# Altium footprint library FOC_DRV8323.PcbLib: 17 footprints (part 1 of 2)
Each footprint in its own frame and in the unit in brackets; x right, y up, seen from the top. Pads: shape width x height; smd on the part's side, far side on the other; paste and mask are expansions set on the pad; w line width, h text height; cw(c..) or ccw(c..) is an arc to the next point about the centre after c.
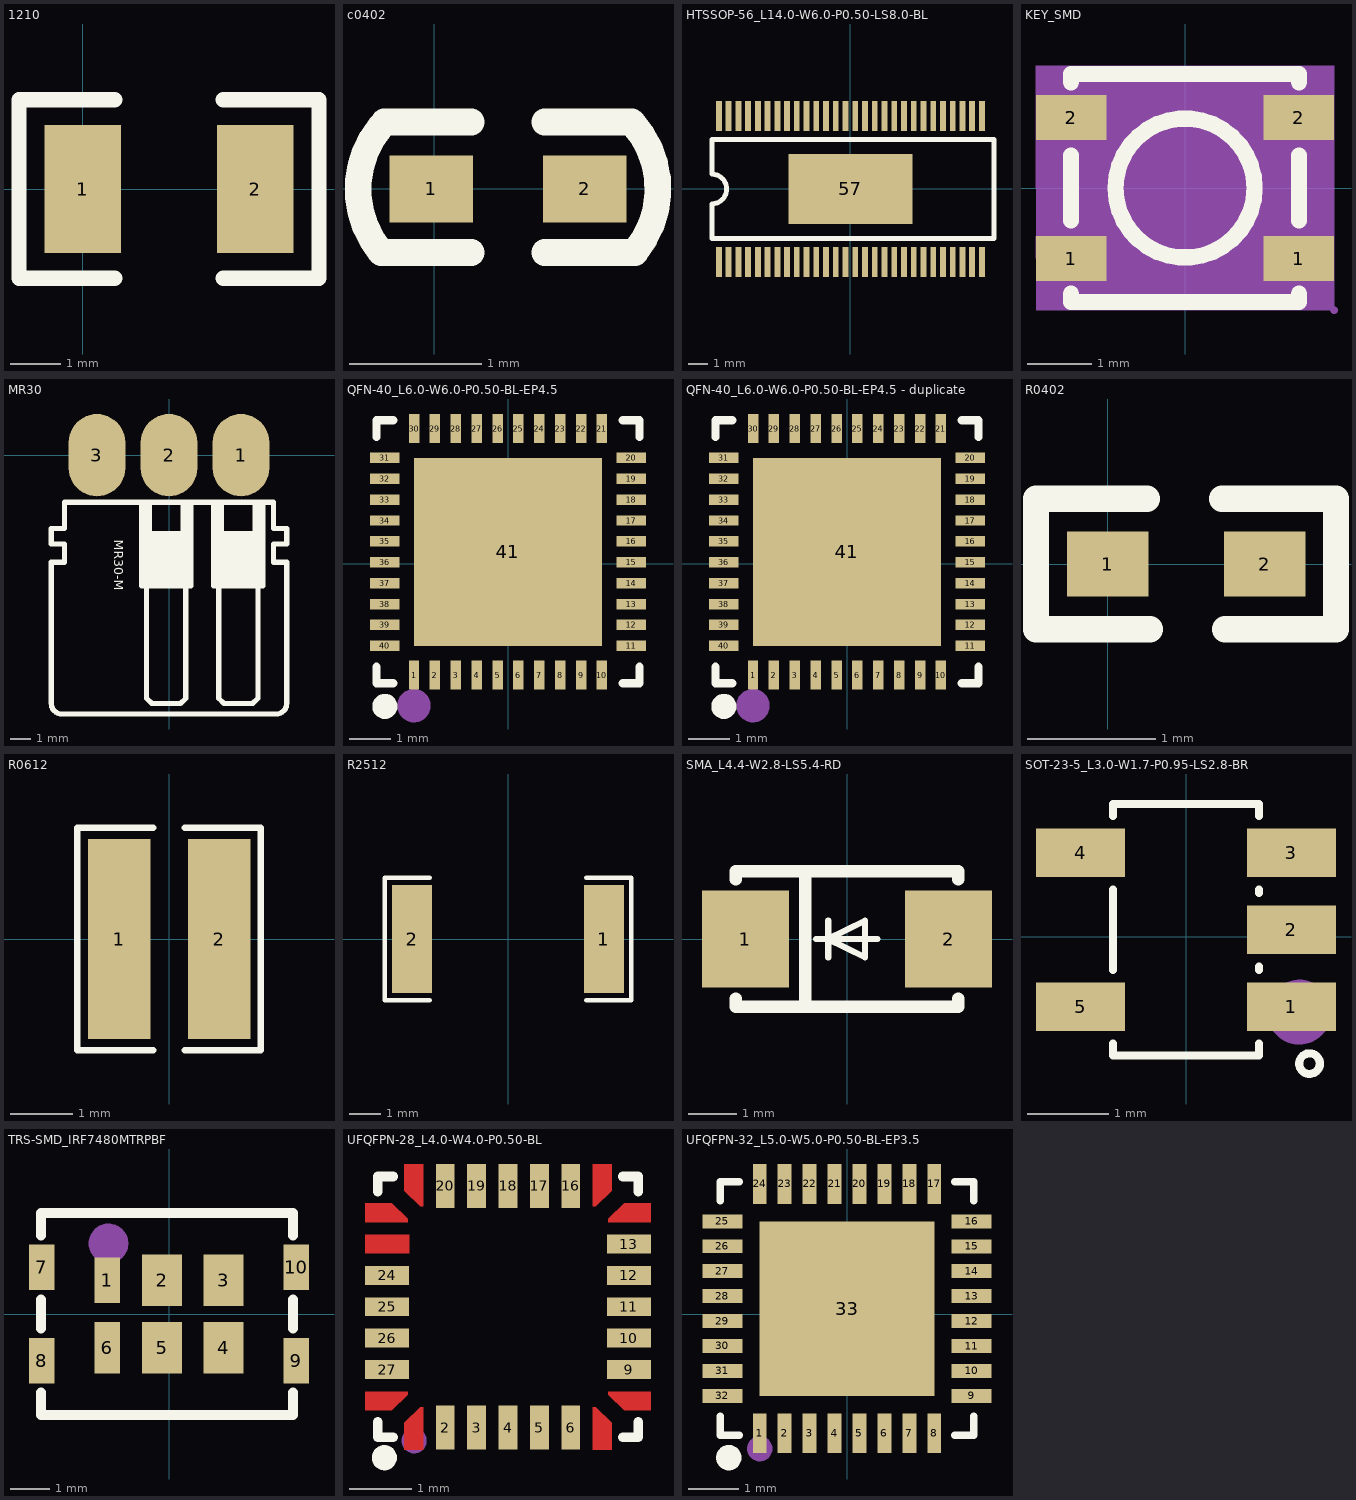
[diagram p0: the footprints below, top view; thin cyan lines are the x and y axes]

## 1210 [mil]
pads (2):
  rect 60x100 smd: 1(0,0) 2(135,0)
Top Overlay:
  lines w12: 25,-70 -50,-70 -50,70 25,70 ; 110,-70 185,-70 185,70 110,70
3D body "User Library-SMD CAPACITOR.sldprt": height 30.35, standoff -0.35, extent 4.01,-49.21 129.99,49.21

## c0402 [mil]
pads (2):
  rect 25x20 smd: 1(-1,0) 2(45,0)
Top Overlay:
  lines w8: -15.94,-19 11,-19 ; -15.94,-18.95 cw(c6.42,-0.05) -15.95,18.84 ; -15,20 11,20 ; 33,-19 59.95,-19 ; 33,20 59,20 cw(c37.58,0.05) 59.95,-18.84
3D body "cap_0402.STEP": height 19.68, standoff 0, extent 2.31,-10 41.68,9.69

## HTSSOP-56_L14.0-W6.0-P0.50-LS8.0-BL [mm]
pads (57):
  rect 0.3x1.55 smd paste+0 mask+0.102: 1(-6.75,-3.75) 2(-6.25,-3.75) 3(-5.75,-3.75) 4(-5.25,-3.75) 5(-4.75,-3.75) 6(-4.25,-3.75) 7(-3.75,-3.75) 8(-3.25,-3.75) 9(-2.75,-3.75) 10(-2.25,-3.75) 11(-1.75,-3.75) 12(-1.25,-3.75) 13(-0.75,-3.75) 14(-0.25,-3.75) 15(0.25,-3.75) 16(0.75,-3.75) 17(1.25,-3.75) 18(1.75,-3.75) 19(2.25,-3.75) 20(2.75,-3.75) 21(3.25,-3.75) 22(3.75,-3.75) 23(4.25,-3.75) 24(4.75,-3.75) 25(5.25,-3.75) 26(5.75,-3.75) 27(6.25,-3.75) 28(6.75,-3.75) 29(6.75,3.75) 30(6.25,3.75) 31(5.75,3.75) 32(5.25,3.75) 33(4.75,3.75) 34(4.25,3.75) 35(3.75,3.75) 36(3.25,3.75) 37(2.75,3.75) 38(2.25,3.75) 39(1.75,3.75) 40(1.25,3.75) 41(0.75,3.75) 42(0.25,3.75) 43(-0.25,3.75) 44(-0.75,3.75) 45(-1.25,3.75) 46(-1.75,3.75) 47(-2.25,3.75) 48(-2.75,3.75) 49(-3.25,3.75) 50(-3.75,3.75) 51(-4.25,3.75) 52(-4.75,3.75) 53(-5.25,3.75) 54(-5.75,3.75) 55(-6.25,3.75) 56(-6.75,3.75)
  rect 6.35x3.61 smd paste+0 mask+0.102: 57(0,0)
Top Overlay:
  lines w0.254: -7.112,-2.54 7.366,-2.54 7.366,2.54 -7.112,2.54 -7.112,0.762 cw(c-7.112,0) -7.112,-0.762 -7.112,-2.54

## KEY_SMD [mm]
height 3
pads (4):
  rect 1.1x0.7 smd: 1(-1.775,-1.1) 1(1.775,-1.1) 2(-1.775,1.1) 2(1.775,1.1)
Top Overlay:
  circle w0.254: c0,0 r1.085
  lines w0.254: -1.778,-1.651 -1.778,-1.778 1.778,-1.778 1.778,-1.651 ; -1.778,-0.508 -1.778,0.508 ; -1.778,1.651 -1.778,1.778 1.778,1.778 1.778,1.651 ; 1.778,-0.508 1.778,0.508
Mechanical 4:
  region: -2.325,1.905 2.325,1.905 2.325,-1.905 -2.325,-1.905
Mechanical 5:
  region: -2.325,1.45 -1.225,1.45 -1.225,0.75 -2.325,0.75
  region: 1.225,1.45 2.325,1.45 2.325,0.75 1.225,0.75
  region: -2.325,-0.75 -1.225,-0.75 -1.225,-1.45 -2.325,-1.45
  region: 1.225,-0.75 2.325,-0.75 2.325,-1.45 1.225,-1.45
Mechanical 6:
  circle w0.06: c2.325,-1.905 r0.03
Mechanical 15:
  lines w0.003: -0.011,0.478 0.04,0.529

## MR30 [mm]
pads (3):
  oval 2.75x4 smd: 1(3.5,0) 2(0,0) 3(-3.5,0)
Top Overlay:
  region: 4.572,-2.286 4.191,-2.286 4.191,-3.81 2.54,-3.81 2.54,-2.286 2.159,-2.286 2.159,-6.35 4.445,-6.35 4.572,-6.35
  region: 1.072,-2.286 0.691,-2.286 0.691,-3.81 -0.96,-3.81 -0.96,-2.286 -1.341,-2.286 -1.341,-6.35 0.945,-6.35 1.072,-6.35
  lines w0.254: -1.341,-2.286 -1.341,-6.35 -1.087,-6.35 ; -0.96,-2.286 -0.96,-3.81 0.691,-3.81 0.691,-2.286 ; 1.072,-2.286 1.072,-6.35 0.818,-6.35 ; 2.159,-2.286 2.159,-6.35 2.413,-6.35 ; 2.54,-2.286 2.54,-3.81 4.191,-3.81 4.191,-2.286 ; 4.572,-2.286 4.572,-6.35 4.318,-6.35 ; -1.087,-6.35 0.818,-6.35 ; -1.087,-6.35 -1.087,-11.811 -0.833,-12.065 0.056,-12.065 0.564,-12.065 0.818,-11.811 0.818,-6.35 ; 2.413,-6.35 4.318,-6.35 ; 2.413,-6.35 2.413,-11.811 2.667,-12.065 3.556,-12.065 4.064,-12.065 4.318,-11.811 4.318,-6.35 ; -5.715,-12.065 ccw(c-5.207,-12.065) -5.207,-12.573 0,-12.573 5.207,-12.573 ccw(c5.207,-12.065) 5.715,-12.065 5.715,-11.593 5.715,-5.207 5.08,-5.207 5.08,-4.318 5.715,-4.318 5.715,-3.556 5.08,-3.556 5.08,-2.286 0,-2.286 -5.08,-2.286 -5.08,-3.556 -5.715,-3.556 -5.715,-4.318 -5.08,-4.318 -5.08,-5.207 -5.715,-5.207 -5.715,-11.593 -5.715,-12.065
  text "MR30-M" at -2.816,-4.106 h0.76
3D body "mr30-m.step": height 2.45, standoff -2.46, extent -5.95,-12.385 5.95,1.015

## PCBComponent_1 [mm]

## QFN-40_L6.0-W6.0-P0.50-BL-EP4.5 [mm]
pads (41):
  rect 0.25x0.7 smd paste-100 mask+0.051: 1(-2.25,-2.659) 2(-1.75,-2.659) 3(-1.25,-2.659) 4(-0.75,-2.659) 5(-0.25,-2.659) 6(0.25,-2.659) 7(0.75,-2.659) 8(1.25,-2.659) 9(1.75,-2.659) 10(2.25,-2.659) 21(2.25,3.241) 22(1.75,3.241) 23(1.25,3.241) 24(0.75,3.241) 25(0.25,3.241) 26(-0.25,3.241) 27(-0.75,3.241) 28(-1.25,3.241) 29(-1.75,3.241) 30(-2.25,3.241)
  rect 0.7x0.25 smd paste-100 mask+0.051: 11(2.95,-1.958) 12(2.95,-1.459) 13(2.95,-0.958) 14(2.95,-0.459) 15(2.95,0.042) 16(2.95,0.541) 17(2.95,1.042) 18(2.95,1.541) 19(2.95,2.041) 20(2.95,2.541) 31(-2.95,2.541) 32(-2.95,2.041) 33(-2.95,1.541) 34(-2.95,1.042) 35(-2.95,0.541) 36(-2.95,0.042) 37(-2.95,-0.459) 38(-2.95,-0.958) 39(-2.95,-1.459) 40(-2.95,-1.958)
  rect 4.5x4.5 smd paste-100 mask+0.051: 41(0,0.292)
Top Overlay:
  lines w0.2: -3.15,-2.459 -3.15,-2.858 -2.75,-2.858 ; -3.15,3.041 -3.15,3.442 -2.75,3.442 ; 2.75,-2.858 3.15,-2.858 3.15,-2.459 ; 2.75,3.442 3.15,3.442 3.15,3.041
  lines w0.3: -2.949,-3.259 ccw(c-2.948,-3.409) -2.946,-3.259
Top Paste:
  drawing of 41 lines, arcs and shapes, not listed
Mechanical 15:
  circle w0.4: c-2.25,-3.392 r0.2

## QFN-40_L6.0-W6.0-P0.50-BL-EP4.5 - duplicate [mm]
pads (41):
  rect 0.25x0.7 smd paste-100 mask+0.051: 1(-2.25,-2.659) 2(-1.75,-2.659) 3(-1.25,-2.659) 4(-0.75,-2.659) 5(-0.25,-2.659) 6(0.25,-2.659) 7(0.75,-2.659) 8(1.25,-2.659) 9(1.75,-2.659) 10(2.25,-2.659) 21(2.25,3.241) 22(1.75,3.241) 23(1.25,3.241) 24(0.75,3.241) 25(0.25,3.241) 26(-0.25,3.241) 27(-0.75,3.241) 28(-1.25,3.241) 29(-1.75,3.241) 30(-2.25,3.241)
  rect 0.7x0.25 smd paste-100 mask+0.051: 11(2.95,-1.958) 12(2.95,-1.459) 13(2.95,-0.958) 14(2.95,-0.459) 15(2.95,0.042) 16(2.95,0.541) 17(2.95,1.042) 18(2.95,1.541) 19(2.95,2.041) 20(2.95,2.541) 31(-2.95,2.541) 32(-2.95,2.041) 33(-2.95,1.541) 34(-2.95,1.042) 35(-2.95,0.541) 36(-2.95,0.042) 37(-2.95,-0.459) 38(-2.95,-0.958) 39(-2.95,-1.459) 40(-2.95,-1.958)
  rect 4.5x4.5 smd paste-100 mask+0.051: 41(0,0.292)
Top Overlay:
  lines w0.2: -3.15,-2.459 -3.15,-2.858 -2.75,-2.858 ; -3.15,3.041 -3.15,3.442 -2.75,3.442 ; 2.75,-2.858 3.15,-2.858 3.15,-2.459 ; 2.75,3.442 3.15,3.442 3.15,3.041
  lines w0.3: -2.949,-3.259 ccw(c-2.948,-3.409) -2.946,-3.259
Top Paste:
  drawing of 41 lines, arcs and shapes, not listed
Mechanical 15:
  circle w0.4: c-2.25,-3.392 r0.2

## R0402 [mil] "1/16W"
pads (2):
  rect 25x20 smd: 1(0,0) 2(48.2,0)
Top Overlay:
  lines w8: 12,20 -22,20 -22,-20 13,-20 ; 35,20 70,20 70,-20 36,-20
3D body "R0402.STEP": height 13.78, standoff 0, extent 4.71,-9.78 44.09,9.9

## R0612 [mm]
pads (2):
  rect 1x3.2 smd paste+0 mask+0.051: 1(-0.8,0) 2(0.8,0)
Top Overlay:
  lines w0.102: -0.25,-1.78 -1.47,-1.78 -1.47,1.78 -0.25,1.78 ; 0.25,-1.78 1.47,-1.78 1.47,1.78 ; 0.25,1.78 1.45,1.78

## R2512 [mm]
pads (2):
  rect 1.283x3.456 smd paste-100 mask+0.051: 1(3.066,0) 2(-3.066,0)
Top Overlay:
  lines w0.152: -2.501,-1.957 -3.936,-1.957 -3.936,1.957 -2.501,1.957 ; 2.501,-1.957 3.936,-1.957 3.936,1.957 2.501,1.957
Top Paste:
  region: 2.425,1.628 2.425,0.688 2.525,0.588 2.761,0.588 2.861,0.488 2.861,-0.488 2.761,-0.588 2.525,-0.588 2.425,-0.688 2.425,-1.628 2.525,-1.728 3.608,-1.728 3.708,-1.628 3.708,1.628 3.608,1.728 2.525,1.728
  region: -2.425,1.628 -2.425,0.688 -2.525,0.588 -2.761,0.588 -2.861,0.488 -2.861,-0.488 -2.761,-0.588 -2.525,-0.588 -2.425,-0.688 -2.425,-1.628 -2.525,-1.728 -3.608,-1.728 -3.708,-1.628 -3.708,1.628 -3.608,1.728 -2.525,1.728

## SMA_L4.4-W2.8-LS5.4-RD [mm]
pads (2):
  rect 1.8x2 smd paste+0 mask+0.102: 1(-2.1,0) 2(2.1,0)
Top Overlay:
  lines w0.127: -0.643,0 0.627,0 ; -0.389,-0.381 -0.389,0 ; -0.389,0.381 -0.389,0 ; -0.389,0 0.373,-0.381 0.373,0 0.373,0.381 -0.389,0
  lines w0.254: -2.3,-1.231 -2.3,-1.4 2.3,-1.4 2.3,-1.231 ; -2.3,1.231 -2.3,1.4 2.3,1.4 2.3,1.231 ; -0.864,-1.4 -0.864,1.4

## SOT-23-5_L3.0-W1.7-P0.95-LS2.8-BR [mm]
pads (5):
  rect 1.1x0.6 smd paste+0 mask+0.051: 1(1.3,-0.861) 2(1.3,0.089) 3(1.3,1.039) 4(-1.3,1.039) 5(-1.3,-0.861)
Top Overlay:
  circle w0.1: c1.524,-1.562 r0.127
  lines w0.1: -0.9,-1.315 -0.9,-1.461 0.9,-1.461 0.9,-1.315 ; -0.9,-0.407 -0.9,0.585 ; -0.9,1.493 -0.9,1.639 0.9,1.639 0.9,1.493 ; 0.9,-0.407 0.9,-0.365 ; 0.9,0.543 0.9,0.585
Mechanical 15:
  circle w0.4: c1.397,-0.927 r0.2

## TRS-SMD_IRF7480MTRPBF [mm]
pads (10):
  rect 0.65x1.15 smd paste+0 mask+0.051: 1(-1.555,0.85) 7(-3.205,1.175) 8(-3.205,-1.175) 9(3.205,-1.175) 10(3.205,1.175)
  rect 1x1.3 smd paste+0 mask+0.051: 2(-0.175,0.85) 3(1.375,0.85) 4(1.375,-0.85) 5(-0.175,-0.85)
  rect 0.65x1.3 smd paste+0 mask+0.051: 6(-1.555,-0.85)
Top Overlay:
  lines w0.254: -3.223,-1.981 -3.223,-2.54 3.127,-2.54 3.127,-1.981 ; -3.223,-0.369 -3.223,0.369 ; -3.223,1.981 -3.223,2.54 3.127,2.54 3.127,1.981 ; 3.127,-0.369 3.127,0.369
Mechanical 15:
  circle w0.5: c-1.524,1.778 r0.25

## UFQFPN-28_L4.0-W4.0-P0.50-BL [mm]
pads (19):
  rect 0.3x0.7 smd paste+0 mask+0.05: 2(380.035,-402.853) 3(380.535,-402.853) 4(381.035,-402.853) 5(381.535,-402.853) 6(382.035,-402.853) 16(382.035,-399.003) 17(381.535,-399.003) 18(381.035,-399.003) 19(380.535,-399.003) 20(380.035,-399.003)
  rect 0.7x0.3 smd paste+0 mask+0.05: 9(382.96,-401.928) 10(382.96,-401.428) 11(382.96,-400.928) 12(382.96,-400.428) 13(382.96,-399.928) 24(379.11,-400.428) 25(379.11,-400.928) 26(379.11,-401.428) 27(379.11,-401.928)
Top Layer:
  region: 378.76,-399.778 379.46,-399.778 379.46,-400.078 378.76,-400.078
  region: 382.885,-399.278 383.31,-399.278 383.31,-399.578 382.635,-399.578 382.635,-399.528
  region: 382.685,-399.078 382.685,-398.653 382.385,-398.653 382.385,-399.328 382.435,-399.328
  region: 379.185,-399.278 378.76,-399.278 378.76,-399.578 379.435,-399.578 379.435,-399.528
  region: 379.385,-399.077 379.385,-398.653 379.685,-398.653 379.685,-399.328 379.635,-399.328
  region: 379.385,-402.778 379.385,-403.203 379.685,-403.203 379.685,-402.528 379.635,-402.528
  region: 379.185,-402.578 378.76,-402.578 378.76,-402.278 379.435,-402.278 379.435,-402.328
  region: 382.885,-402.578 383.31,-402.578 383.31,-402.278 382.635,-402.278 382.635,-402.328
  region: 382.685,-402.778 382.685,-403.203 382.385,-403.203 382.385,-402.528 382.435,-402.528
Top Overlay:
  circle w0.2: c379.065,-403.333 r0.1
  lines w0.152: 378.959,-402.758 378.959,-403.004 379.204,-403.004 ; 378.959,-399.097 378.959,-398.851 379.204,-398.851 ; 382.865,-403.004 383.111,-403.004 383.111,-402.758 ; 382.865,-398.851 383.111,-398.851 383.111,-399.097
Mechanical 15:
  circle w0.2: c379.54,-403.063 r0.1

## UFQFPN-32_L5.0-W5.0-P0.50-BL-EP3.5 [mm]
pads (33):
  rect 0.28x0.8 smd paste-100 mask+0.051: 1(-1.75,-2.392) 2(-1.25,-2.392) 3(-0.75,-2.392) 4(-0.25,-2.392) 5(0.25,-2.392) 6(0.75,-2.392) 7(1.25,-2.392) 8(1.75,-2.392) 17(1.75,2.609) 18(1.25,2.608) 19(0.75,2.609) 20(0.25,2.608) 21(-0.25,2.608) 22(-0.75,2.608) 23(-1.25,2.608) 24(-1.75,2.608)
  rect 0.8x0.28 smd paste-100 mask+0.051: 9(2.5,-1.642) 10(2.5,-1.142) 11(2.5,-0.642) 12(2.5,-0.142) 13(2.5,0.358) 14(2.5,0.858) 15(2.5,1.358) 16(2.5,1.858) 25(-2.5,1.858) 26(-2.5,1.358) 27(-2.5,0.858) 28(-2.5,0.358) 29(-2.5,-0.142) 30(-2.5,-0.642) 31(-2.5,-1.142) 32(-2.5,-1.642)
  rect 3.5x3.5 smd paste-100 mask+0.051: 33(0,0.108)
Top Overlay:
  circle w0.254: c-2.37,-2.882 r0.127
  lines w0.152: -2.54,-2.051 -2.54,-2.432 -2.159,-2.432 ; -2.54,2.268 -2.54,2.648 -2.159,2.648 ; 2.159,-2.432 2.54,-2.432 2.54,-2.051 ; 2.159,2.648 2.54,2.648 2.54,2.268
Top Paste:
  region: -1.4,1.508 1.4,1.508 1.4,-1.292 -1.4,-1.292
  region: -2.9,-1.502 -2.1,-1.502 -2.1,-1.782 -2.9,-1.782
  region: -2.9,-1.002 -2.1,-1.002 -2.1,-1.282 -2.9,-1.282
  region: -2.9,-0.502 -2.1,-0.502 -2.1,-0.782 -2.9,-0.782
  region: -2.9,-0.002 -2.1,-0.002 -2.1,-0.282 -2.9,-0.282
  region: -2.9,0.498 -2.1,0.498 -2.1,0.219 -2.9,0.219
  region: -2.9,0.998 -2.1,0.998 -2.1,0.718 -2.9,0.718
  region: -2.9,1.498 -2.1,1.498 -2.1,1.218 -2.9,1.218
  region: -2.9,1.998 -2.1,1.998 -2.1,1.718 -2.9,1.718
  region: -1.89,3.008 -1.61,3.008 -1.61,2.208 -1.89,2.208
  region: -1.39,3.008 -1.11,3.008 -1.11,2.208 -1.39,2.208
  region: -0.89,3.008 -0.61,3.008 -0.61,2.208 -0.89,2.208
  region: -0.39,3.008 -0.11,3.008 -0.11,2.208 -0.39,2.208
  region: 0.11,3.008 0.39,3.008 0.39,2.208 0.11,2.208
  region: 0.61,3.008 0.89,3.008 0.89,2.208 0.61,2.208
  region: 1.11,3.008 1.39,3.008 1.39,2.208 1.11,2.208
  region: 1.61,3.008 1.89,3.008 1.89,2.208 1.61,2.208
  region: 2.1,1.998 2.9,1.998 2.9,1.718 2.1,1.718
  region: 2.1,1.498 2.9,1.498 2.9,1.218 2.1,1.218
  region: 2.1,0.998 2.9,0.998 2.9,0.718 2.1,0.718
  region: 2.1,0.498 2.9,0.498 2.9,0.218 2.1,0.218
  region: 2.1,-0.002 2.9,-0.002 2.9,-0.282 2.1,-0.282
  region: 2.1,-0.502 2.9,-0.502 2.9,-0.782 2.1,-0.782
  region: 2.1,-1.002 2.9,-1.002 2.9,-1.282 2.1,-1.282
  region: 2.1,-1.502 2.9,-1.502 2.9,-1.782 2.1,-1.782
  region: 1.61,-1.992 1.89,-1.992 1.89,-2.792 1.61,-2.792
  region: 1.11,-1.992 1.39,-1.992 1.39,-2.792 1.11,-2.792
  region: 0.61,-1.992 0.89,-1.992 0.89,-2.792 0.61,-2.792
  region: 0.11,-1.992 0.39,-1.992 0.39,-2.792 0.11,-2.792
  region: -0.39,-1.992 -0.11,-1.992 -0.11,-2.792 -0.39,-2.792
  region: -0.89,-1.992 -0.61,-1.992 -0.61,-2.792 -0.89,-2.792
  region: -1.39,-1.992 -1.11,-1.992 -1.11,-2.792 -1.39,-2.792
  region: -1.89,-1.992 -1.61,-1.992 -1.61,-2.792 -1.89,-2.792
Mechanical 15:
  circle w0.254: c-1.75,-2.702 r0.127